# EAGLE library part HEADER1X6-SS (library MyLibrary)
6-pin Header (1*6) 0.5mm Pitch Connectors For FPC/FFC
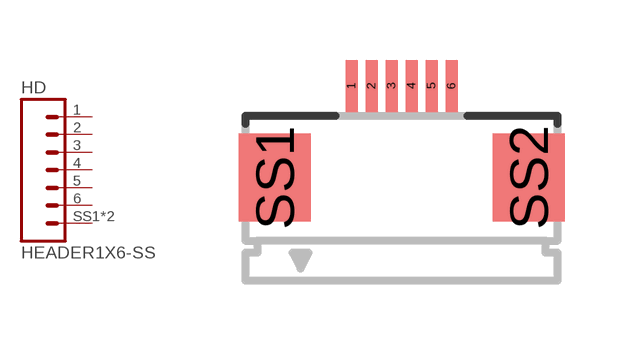
[diagram p17: symbol with the pads of FPC0.5-6-DRAWER; footprint FPC0.5-6-DRAWER]

Designator prefix HD

## HEADER1X6-SS-FPC0.5-DRAWER  [FPC0.5-6-DRAWER]
1  1  pas
2  2  pas
3  3  pas
4  4  pas
5  5  pas
6  6  pas
SS1  7  pas
SS2  7  pas

## Footprint FPC0.5-6-DRAWER (pad centres in mm)
0.5mm Pitch Connectors For FPC/FFC
smd 0.3 x 1.3: 1 -1.25,3.25; 2 -0.75,3.25; 3 -0.25,3.25; 4 0.25,3.25; 5 0.75,3.25; 6 1.25,3.25
smd 1.8 x 2.2: SS1 -3.175,0.953; SS2 3.175,0.953